# Altium footprint library Connector_Hirose.PcbLib: 136 footprints (part 4 of 9)
Each footprint in its own frame and in the unit in brackets; x right, y up, seen from the top. Pads: shape width x height; smd on the part's side, far side on the other; paste and mask are expansions set on the pad; w line width, h text height; cw(c..) or ccw(c..) is an arc to the next point about the centre after c.
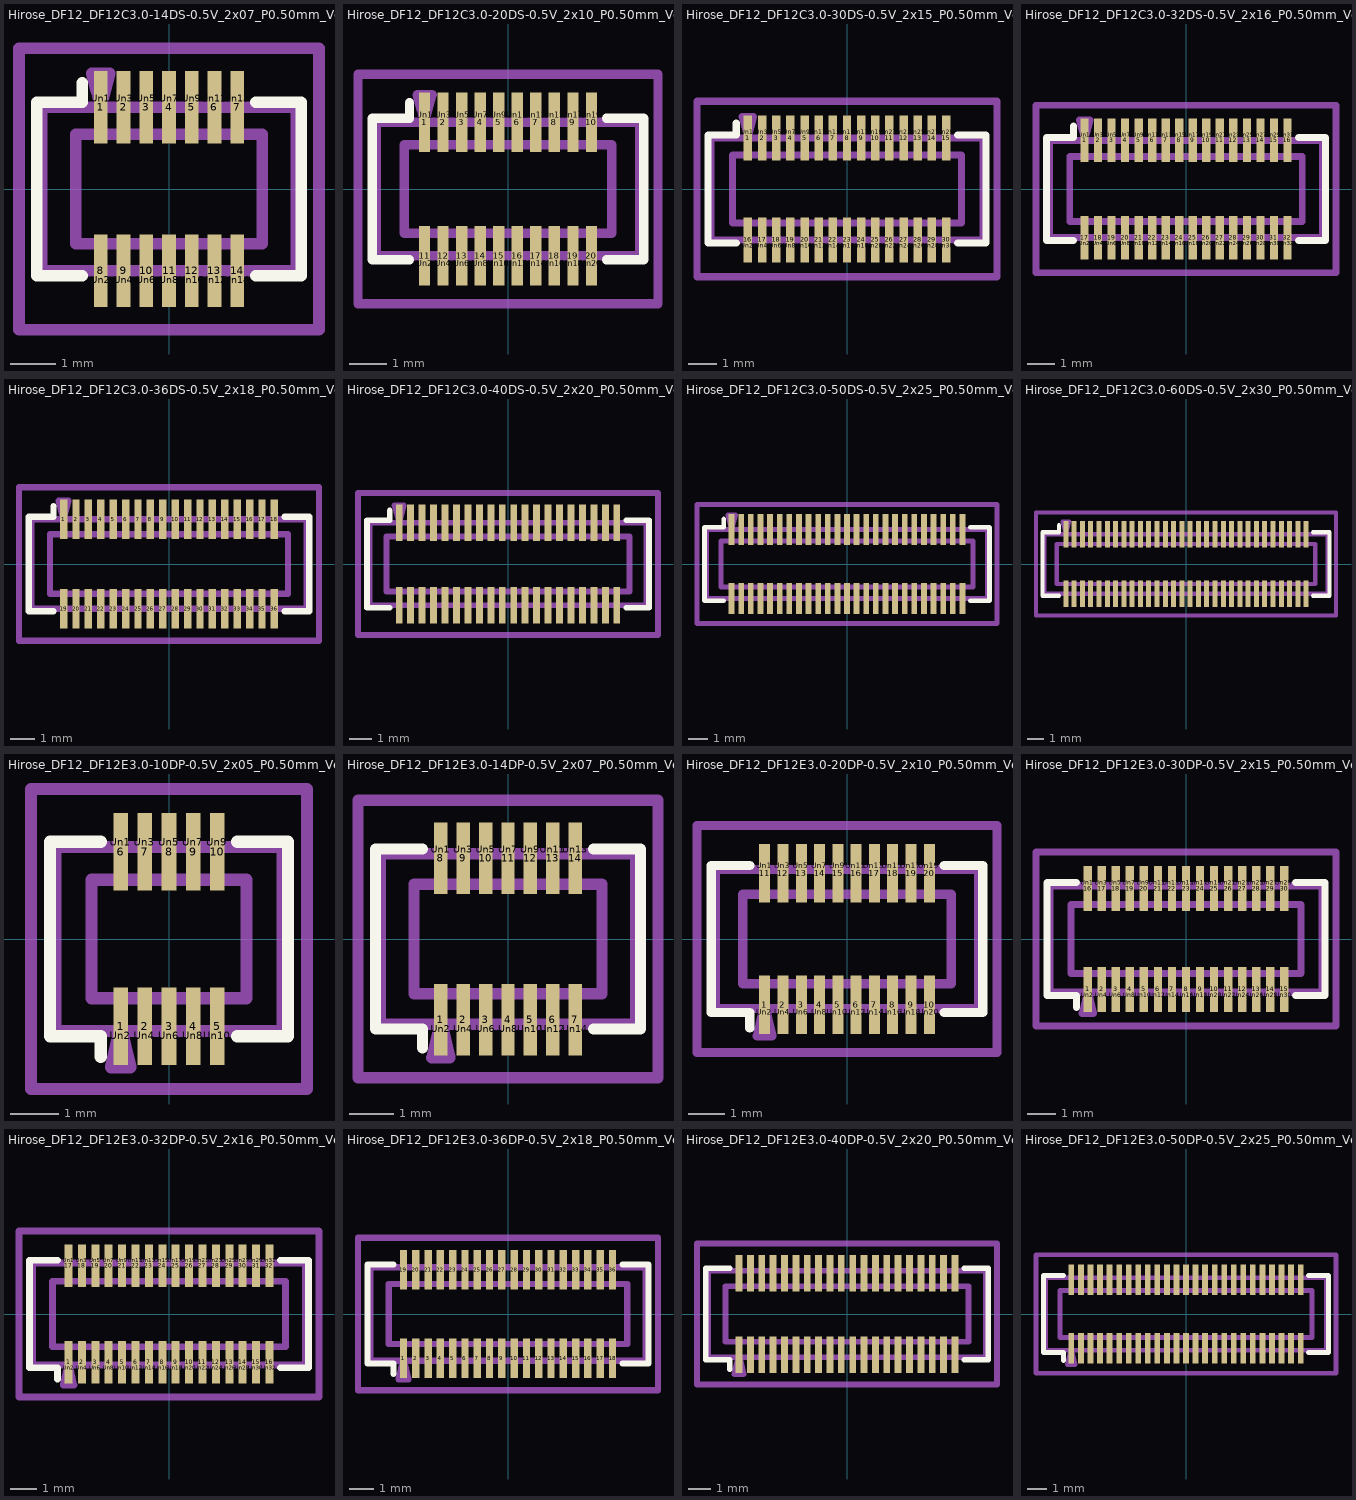
[diagram p3: the footprints below, top view; thin cyan lines are the x and y axes]

## Hirose_DF12_DF12C3.0-14DS-0.5V_2x07_P0.50mm_Vertical [mm]
pads (28):
  rect 0.3x1.6 smd: 1(-1.5,1.8) 2(-1,1.8) 3(-0.5,1.8) 4(0,1.8) 5(0.5,1.8) 6(1,1.8) 7(1.5,1.8) 8(-1.5,-1.8) 9(-1,-1.8) 10(-0.5,-1.8) 11(0,-1.8) 12(0.5,-1.8) 13(1,-1.8) 14(1.5,-1.8)
  rect 0.28x1.2 on Top Paste: Un1(-1.5,2) Un2(-1.5,-2) Un3(-1,2) Un4(-1,-2) Un5(-0.5,2) Un6(-0.5,-2) Un7(0,2) Un8(0,-2) Un9(0.5,2) Un10(0.5,-2) Un11(1,2) Un12(1,-2) Un13(1.5,2) Un14(1.5,-2)
F.SilkS:
  lines w0.254: -1.91,-1.91 -2.91,-1.91 -2.91,1.91 -1.91,1.91 -1.91,2.333 ; 1.91,-1.91 2.91,-1.91 2.91,1.91 1.91,1.91
Top Assembly:
  lines w0.254: -2.8,-1.8 2.8,-1.8 2.8,1.8 -2.8,1.8 -2.8,-1.8 ; -2.05,-1.2 2.05,-1.2 2.05,1.2 -2.05,1.2 -2.05,-1.2 ; -1.7,2.55 -1.3,2.55 -1.5,1.8 -1.7,2.55
  text "'.Designator'" at -4.047,0.26 h1
Top Courtyard:
  lines w0.254: -3.3,-3.1 3.3,-3.1 3.3,3.1 -3.3,3.1 -3.3,-3.1
Top Designator:
  text ".Designator" at -7.768,-0.508 h1.52

## Hirose_DF12_DF12C3.0-20DS-0.5V_2x10_P0.50mm_Vertical [mm]
pads (40):
  rect 0.3x1.6 smd: 1(-2.25,1.8) 2(-1.75,1.8) 3(-1.25,1.8) 4(-0.75,1.8) 5(-0.25,1.8) 6(0.25,1.8) 7(0.75,1.8) 8(1.25,1.8) 9(1.75,1.8) 10(2.25,1.8) 11(-2.25,-1.8) 12(-1.75,-1.8) 13(-1.25,-1.8) 14(-0.75,-1.8) 15(-0.25,-1.8) 16(0.25,-1.8) 17(0.75,-1.8) 18(1.25,-1.8) 19(1.75,-1.8) 20(2.25,-1.8)
  rect 0.28x1.2 on Top Paste: Un1(-2.25,2) Un2(-2.25,-2) Un3(-1.75,2) Un4(-1.75,-2) Un5(-1.25,2) Un6(-1.25,-2) Un7(-0.75,2) Un8(-0.75,-2) Un9(-0.25,2) Un10(-0.25,-2) Un11(0.25,2) Un12(0.25,-2) Un13(0.75,2) Un14(0.75,-2) Un15(1.25,2) Un16(1.25,-2) Un17(1.75,2) Un18(1.75,-2) Un19(2.25,2) Un20(2.25,-2)
F.SilkS:
  lines w0.254: -2.66,-1.91 -3.66,-1.91 -3.66,1.91 -2.66,1.91 -2.66,2.333 ; 2.66,-1.91 3.66,-1.91 3.66,1.91 2.66,1.91
Top Assembly:
  lines w0.254: -3.55,-1.8 3.55,-1.8 3.55,1.8 -3.55,1.8 -3.55,-1.8 ; -2.8,-1.2 2.8,-1.2 2.8,1.2 -2.8,1.2 -2.8,-1.2 ; -2.45,2.55 -2.05,2.55 -2.25,1.8 -2.45,2.55
  text "'.Designator'" at -4.047,0.26 h1
Top Courtyard:
  lines w0.254: -4.05,-3.1 4.05,-3.1 4.05,3.1 -4.05,3.1 -4.05,-3.1
Top Designator:
  text ".Designator" at -7.627,-0.508 h1.52

## Hirose_DF12_DF12C3.0-30DS-0.5V_2x15_P0.50mm_Vertical [mm]
pads (60):
  rect 0.3x1.6 smd: 1(-3.5,1.8) 2(-3,1.8) 3(-2.5,1.8) 4(-2,1.8) 5(-1.5,1.8) 6(-1,1.8) 7(-0.5,1.8) 8(0,1.8) 9(0.5,1.8) 10(1,1.8) 11(1.5,1.8) 12(2,1.8) 13(2.5,1.8) 14(3,1.8) 15(3.5,1.8) 16(-3.5,-1.8) 17(-3,-1.8) 18(-2.5,-1.8) 19(-2,-1.8) 20(-1.5,-1.8) 21(-1,-1.8) 22(-0.5,-1.8) 23(0,-1.8) 24(0.5,-1.8) 25(1,-1.8) 26(1.5,-1.8) 27(2,-1.8) 28(2.5,-1.8) 29(3,-1.8) 30(3.5,-1.8)
  rect 0.28x1.2 on Top Paste: Un1(-3.5,2) Un2(-3.5,-2) Un3(-3,2) Un4(-3,-2) Un5(-2.5,2) Un6(-2.5,-2) Un7(-2,2) Un8(-2,-2) Un9(-1.5,2) Un10(-1.5,-2) Un11(-1,2) Un12(-1,-2) Un13(-0.5,2) Un14(-0.5,-2) Un15(0,2) Un16(0,-2) Un17(0.5,2) Un18(0.5,-2) Un19(1,2) Un20(1,-2) Un21(1.5,2) Un22(1.5,-2) Un23(2,2) Un24(2,-2) Un25(2.5,2) Un26(2.5,-2) Un27(3,2) Un28(3,-2) Un29(3.5,2) Un30(3.5,-2)
F.SilkS:
  lines w0.254: -3.91,-1.91 -4.91,-1.91 -4.91,1.91 -3.91,1.91 -3.91,2.333 ; 3.91,-1.91 4.91,-1.91 4.91,1.91 3.91,1.91
Top Assembly:
  lines w0.254: -4.8,-1.8 4.8,-1.8 4.8,1.8 -4.8,1.8 -4.8,-1.8 ; -4.05,-1.2 4.05,-1.2 4.05,1.2 -4.05,1.2 -4.05,-1.2 ; -3.7,2.55 -3.3,2.55 -3.5,1.8 -3.7,2.55
  text "'.Designator'" at -4.047,0.26 h1
Top Courtyard:
  lines w0.254: -5.3,-3.1 5.3,-3.1 5.3,3.1 -5.3,3.1 -5.3,-3.1
Top Designator:
  text ".Designator" at -7.618,-0.508 h1.52

## Hirose_DF12_DF12C3.0-32DS-0.5V_2x16_P0.50mm_Vertical [mm]
pads (64):
  rect 0.3x1.6 smd: 1(-3.75,1.8) 2(-3.25,1.8) 3(-2.75,1.8) 4(-2.25,1.8) 5(-1.75,1.8) 6(-1.25,1.8) 7(-0.75,1.8) 8(-0.25,1.8) 9(0.25,1.8) 10(0.75,1.8) 11(1.25,1.8) 12(1.75,1.8) 13(2.25,1.8) 14(2.75,1.8) 15(3.25,1.8) 16(3.75,1.8) 17(-3.75,-1.8) 18(-3.25,-1.8) 19(-2.75,-1.8) 20(-2.25,-1.8) 21(-1.75,-1.8) 22(-1.25,-1.8) 23(-0.75,-1.8) 24(-0.25,-1.8) 25(0.25,-1.8) 26(0.75,-1.8) 27(1.25,-1.8) 28(1.75,-1.8) 29(2.25,-1.8) 30(2.75,-1.8) 31(3.25,-1.8) 32(3.75,-1.8)
  rect 0.28x1.2 on Top Paste: Un1(-3.75,2) Un2(-3.75,-2) Un3(-3.25,2) Un4(-3.25,-2) Un5(-2.75,2) Un6(-2.75,-2) Un7(-2.25,2) Un8(-2.25,-2) Un9(-1.75,2) Un10(-1.75,-2) Un11(-1.25,2) Un12(-1.25,-2) Un13(-0.75,2) Un14(-0.75,-2) Un15(-0.25,2) Un16(-0.25,-2) Un17(0.25,2) Un18(0.25,-2) Un19(0.75,2) Un20(0.75,-2) Un21(1.25,2) Un22(1.25,-2) Un23(1.75,2) Un24(1.75,-2) Un25(2.25,2) Un26(2.25,-2) Un27(2.75,2) Un28(2.75,-2) Un29(3.25,2) Un30(3.25,-2) Un31(3.75,2) Un32(3.75,-2)
F.SilkS:
  lines w0.254: -4.16,-1.91 -5.16,-1.91 -5.16,1.91 -4.16,1.91 -4.16,2.333 ; 4.16,-1.91 5.16,-1.91 5.16,1.91 4.16,1.91
Top Assembly:
  lines w0.254: -5.05,-1.8 5.05,-1.8 5.05,1.8 -5.05,1.8 -5.05,-1.8 ; -4.3,-1.2 4.3,-1.2 4.3,1.2 -4.3,1.2 -4.3,-1.2 ; -3.95,2.55 -3.55,2.55 -3.75,1.8 -3.95,2.55
  text "'.Designator'" at -4.047,0.26 h1
Top Courtyard:
  lines w0.254: -5.55,-3.1 5.55,-3.1 5.55,3.1 -5.55,3.1 -5.55,-3.1
Top Designator:
  text ".Designator" at -7.618,-0.508 h1.52

## Hirose_DF12_DF12C3.0-36DS-0.5V_2x18_P0.50mm_Vertical [mm]
pads (72):
  rect 0.3x1.6 smd: 1(-4.25,1.8) 2(-3.75,1.8) 3(-3.25,1.8) 4(-2.75,1.8) 5(-2.25,1.8) 6(-1.75,1.8) 7(-1.25,1.8) 8(-0.75,1.8) 9(-0.25,1.8) 10(0.25,1.8) 11(0.75,1.8) 12(1.25,1.8) 13(1.75,1.8) 14(2.25,1.8) 15(2.75,1.8) 16(3.25,1.8) 17(3.75,1.8) 18(4.25,1.8) 19(-4.25,-1.8) 20(-3.75,-1.8) 21(-3.25,-1.8) 22(-2.75,-1.8) 23(-2.25,-1.8) 24(-1.75,-1.8) 25(-1.25,-1.8) 26(-0.75,-1.8) 27(-0.25,-1.8) 28(0.25,-1.8) 29(0.75,-1.8) 30(1.25,-1.8) 31(1.75,-1.8) 32(2.25,-1.8) 33(2.75,-1.8) 34(3.25,-1.8) 35(3.75,-1.8) 36(4.25,-1.8)
  rect 0.28x1.2 on Top Paste: Un1(-4.25,2) Un2(-4.25,-2) Un3(-3.75,2) Un4(-3.75,-2) Un5(-3.25,2) Un6(-3.25,-2) Un7(-2.75,2) Un8(-2.75,-2) Un9(-2.25,2) Un10(-2.25,-2) Un11(-1.75,2) Un12(-1.75,-2) Un13(-1.25,2) Un14(-1.25,-2) Un15(-0.75,2) Un16(-0.75,-2) Un17(-0.25,2) Un18(-0.25,-2) Un19(0.25,2) Un20(0.25,-2) Un21(0.75,2) Un22(0.75,-2) Un23(1.25,2) Un24(1.25,-2) Un25(1.75,2) Un26(1.75,-2) Un27(2.25,2) Un28(2.25,-2) Un29(2.75,2) Un30(2.75,-2) Un31(3.25,2) Un32(3.25,-2) Un33(3.75,2) Un34(3.75,-2) Un35(4.25,2) Un36(4.25,-2)
F.SilkS:
  lines w0.254: -4.66,-1.91 -5.66,-1.91 -5.66,1.91 -4.66,1.91 -4.66,2.333 ; 4.66,-1.91 5.66,-1.91 5.66,1.91 4.66,1.91
Top Assembly:
  lines w0.254: -5.55,-1.8 5.55,-1.8 5.55,1.8 -5.55,1.8 -5.55,-1.8 ; -4.8,-1.2 4.8,-1.2 4.8,1.2 -4.8,1.2 -4.8,-1.2 ; -4.45,2.55 -4.05,2.55 -4.25,1.8 -4.45,2.55
  text "'.Designator'" at -4.047,0.26 h1
Top Courtyard:
  lines w0.254: -6.05,-3.1 6.05,-3.1 6.05,3.1 -6.05,3.1 -6.05,-3.1
Top Designator:
  text ".Designator" at -7.618,-0.508 h1.52

## Hirose_DF12_DF12C3.0-40DS-0.5V_2x20_P0.50mm_Vertical [mm]
pads (80):
  rect 0.3x1.6 smd: 1(-4.75,1.8) 2(-4.25,1.8) 3(-3.75,1.8) 4(-3.25,1.8) 5(-2.75,1.8) 6(-2.25,1.8) 7(-1.75,1.8) 8(-1.25,1.8) 9(-0.75,1.8) 10(-0.25,1.8) 11(0.25,1.8) 12(0.75,1.8) 13(1.25,1.8) 14(1.75,1.8) 15(2.25,1.8) 16(2.75,1.8) 17(3.25,1.8) 18(3.75,1.8) 19(4.25,1.8) 20(4.75,1.8) 21(-4.75,-1.8) 22(-4.25,-1.8) 23(-3.75,-1.8) 24(-3.25,-1.8) 25(-2.75,-1.8) 26(-2.25,-1.8) 27(-1.75,-1.8) 28(-1.25,-1.8) 29(-0.75,-1.8) 30(-0.25,-1.8) 31(0.25,-1.8) 32(0.75,-1.8) 33(1.25,-1.8) 34(1.75,-1.8) 35(2.25,-1.8) 36(2.75,-1.8) 37(3.25,-1.8) 38(3.75,-1.8) 39(4.25,-1.8) 40(4.75,-1.8)
  rect 0.28x1.2 on Top Paste: Un1(-4.75,2) Un2(-4.75,-2) Un3(-4.25,2) Un4(-4.25,-2) Un5(-3.75,2) Un6(-3.75,-2) Un7(-3.25,2) Un8(-3.25,-2) Un9(-2.75,2) Un10(-2.75,-2) Un11(-2.25,2) Un12(-2.25,-2) Un13(-1.75,2) Un14(-1.75,-2) Un15(-1.25,2) Un16(-1.25,-2) Un17(-0.75,2) Un18(-0.75,-2) Un19(-0.25,2) Un20(-0.25,-2) Un21(0.25,2) Un22(0.25,-2) Un23(0.75,2) Un24(0.75,-2) Un25(1.25,2) Un26(1.25,-2) Un27(1.75,2) Un28(1.75,-2) Un29(2.25,2) Un30(2.25,-2) Un31(2.75,2) Un32(2.75,-2) Un33(3.25,2) Un34(3.25,-2) Un35(3.75,2) Un36(3.75,-2) Un37(4.25,2) Un38(4.25,-2) Un39(4.75,2) Un40(4.75,-2)
F.SilkS:
  lines w0.254: -5.16,-1.91 -6.16,-1.91 -6.16,1.91 -5.16,1.91 -5.16,2.333 ; 5.16,-1.91 6.16,-1.91 6.16,1.91 5.16,1.91
Top Assembly:
  lines w0.254: -6.05,-1.8 6.05,-1.8 6.05,1.8 -6.05,1.8 -6.05,-1.8 ; -5.3,-1.2 5.3,-1.2 5.3,1.2 -5.3,1.2 -5.3,-1.2 ; -4.95,2.55 -4.55,2.55 -4.75,1.8 -4.95,2.55
  text "'.Designator'" at -4.047,0.26 h1
Top Courtyard:
  lines w0.254: -6.55,-3.1 6.55,-3.1 6.55,3.1 -6.55,3.1 -6.55,-3.1
Top Designator:
  text ".Designator" at -7.618,-0.508 h1.52

## Hirose_DF12_DF12C3.0-50DS-0.5V_2x25_P0.50mm_Vertical [mm]
pads (100):
  rect 0.3x1.6 smd: 1(-6,1.8) 2(-5.5,1.8) 3(-5,1.8) 4(-4.5,1.8) 5(-4,1.8) 6(-3.5,1.8) 7(-3,1.8) 8(-2.5,1.8) 9(-2,1.8) 10(-1.5,1.8) 11(-1,1.8) 12(-0.5,1.8) 13(0,1.8) 14(0.5,1.8) 15(1,1.8) 16(1.5,1.8) 17(2,1.8) 18(2.5,1.8) 19(3,1.8) 20(3.5,1.8) 21(4,1.8) 22(4.5,1.8) 23(5,1.8) 24(5.5,1.8) 25(6,1.8) 26(-6,-1.8) 27(-5.5,-1.8) 28(-5,-1.8) 29(-4.5,-1.8) 30(-4,-1.8) 31(-3.5,-1.8) 32(-3,-1.8) 33(-2.5,-1.8) 34(-2,-1.8) 35(-1.5,-1.8) 36(-1,-1.8) 37(-0.5,-1.8) 38(0,-1.8) 39(0.5,-1.8) 40(1,-1.8) 41(1.5,-1.8) 42(2,-1.8) 43(2.5,-1.8) 44(3,-1.8) 45(3.5,-1.8) 46(4,-1.8) 47(4.5,-1.8) 48(5,-1.8) 49(5.5,-1.8) 50(6,-1.8)
  rect 0.28x1.2 on Top Paste: Un1(-6,2) Un2(-6,-2) Un3(-5.5,2) Un4(-5.5,-2) Un5(-5,2) Un6(-5,-2) Un7(-4.5,2) Un8(-4.5,-2) Un9(-4,2) Un10(-4,-2) Un11(-3.5,2) Un12(-3.5,-2) Un13(-3,2) Un14(-3,-2) Un15(-2.5,2) Un16(-2.5,-2) Un17(-2,2) Un18(-2,-2) Un19(-1.5,2) Un20(-1.5,-2) Un21(-1,2) Un22(-1,-2) Un23(-0.5,2) Un24(-0.5,-2) Un25(0,2) Un26(0,-2) Un27(0.5,2) Un28(0.5,-2) Un29(1,2) Un30(1,-2) Un31(1.5,2) Un32(1.5,-2) Un33(2,2) Un34(2,-2) Un35(2.5,2) Un36(2.5,-2) Un37(3,2) Un38(3,-2) Un39(3.5,2) Un40(3.5,-2) Un41(4,2) Un42(4,-2) Un43(4.5,2) Un44(4.5,-2) Un45(5,2) Un46(5,-2) Un47(5.5,2) Un48(5.5,-2) Un49(6,2) Un50(6,-2)
F.SilkS:
  lines w0.254: -6.41,-1.91 -7.41,-1.91 -7.41,1.91 -6.41,1.91 -6.41,2.333 ; 6.41,-1.91 7.41,-1.91 7.41,1.91 6.41,1.91
Top Assembly:
  lines w0.254: -7.3,-1.8 7.3,-1.8 7.3,1.8 -7.3,1.8 -7.3,-1.8 ; -6.55,-1.2 6.55,-1.2 6.55,1.2 -6.55,1.2 -6.55,-1.2 ; -6.2,2.55 -5.8,2.55 -6,1.8 -6.2,2.55
  text "'.Designator'" at -4.047,0.26 h1
Top Courtyard:
  lines w0.254: -7.8,-3.1 7.8,-3.1 7.8,3.1 -7.8,3.1 -7.8,-3.1
Top Designator:
  text ".Designator" at -7.618,-0.508 h1.52

## Hirose_DF12_DF12C3.0-60DS-0.5V_2x30_P0.50mm_Vertical [mm]
pads (120):
  rect 0.3x1.6 smd: 1(-7.25,1.8) 2(-6.75,1.8) 3(-6.25,1.8) 4(-5.75,1.8) 5(-5.25,1.8) 6(-4.75,1.8) 7(-4.25,1.8) 8(-3.75,1.8) 9(-3.25,1.8) 10(-2.75,1.8) 11(-2.25,1.8) 12(-1.75,1.8) 13(-1.25,1.8) 14(-0.75,1.8) 15(-0.25,1.8) 16(0.25,1.8) 17(0.75,1.8) 18(1.25,1.8) 19(1.75,1.8) 20(2.25,1.8) 21(2.75,1.8) 22(3.25,1.8) 23(3.75,1.8) 24(4.25,1.8) 25(4.75,1.8) 26(5.25,1.8) 27(5.75,1.8) 28(6.25,1.8) 29(6.75,1.8) 30(7.25,1.8) 31(-7.25,-1.8) 32(-6.75,-1.8) 33(-6.25,-1.8) 34(-5.75,-1.8) 35(-5.25,-1.8) 36(-4.75,-1.8) 37(-4.25,-1.8) 38(-3.75,-1.8) 39(-3.25,-1.8) 40(-2.75,-1.8) 41(-2.25,-1.8) 42(-1.75,-1.8) 43(-1.25,-1.8) 44(-0.75,-1.8) 45(-0.25,-1.8) 46(0.25,-1.8) 47(0.75,-1.8) 48(1.25,-1.8) 49(1.75,-1.8) 50(2.25,-1.8) 51(2.75,-1.8) 52(3.25,-1.8) 53(3.75,-1.8) 54(4.25,-1.8) 55(4.75,-1.8) 56(5.25,-1.8) 57(5.75,-1.8) 58(6.25,-1.8) 59(6.75,-1.8) 60(7.25,-1.8)
  rect 0.28x1.2 on Top Paste: Un1(-7.25,2) Un2(-7.25,-2) Un3(-6.75,2) Un4(-6.75,-2) Un5(-6.25,2) Un6(-6.25,-2) Un7(-5.75,2) Un8(-5.75,-2) Un9(-5.25,2) Un10(-5.25,-2) Un11(-4.75,2) Un12(-4.75,-2) Un13(-4.25,2) Un14(-4.25,-2) Un15(-3.75,2) Un16(-3.75,-2) Un17(-3.25,2) Un18(-3.25,-2) Un19(-2.75,2) Un20(-2.75,-2) Un21(-2.25,2) Un22(-2.25,-2) Un23(-1.75,2) Un24(-1.75,-2) Un25(-1.25,2) Un26(-1.25,-2) Un27(-0.75,2) Un28(-0.75,-2) Un29(-0.25,2) Un30(-0.25,-2) Un31(0.25,2) Un32(0.25,-2) Un33(0.75,2) Un34(0.75,-2) Un35(1.25,2) Un36(1.25,-2) Un37(1.75,2) Un38(1.75,-2) Un39(2.25,2) Un40(2.25,-2) Un41(2.75,2) Un42(2.75,-2) Un43(3.25,2) Un44(3.25,-2) Un45(3.75,2) Un46(3.75,-2) Un47(4.25,2) Un48(4.25,-2) Un49(4.75,2) Un50(4.75,-2) Un51(5.25,2) Un52(5.25,-2) Un53(5.75,2) Un54(5.75,-2) Un55(6.25,2) Un56(6.25,-2) Un57(6.75,2) Un58(6.75,-2) Un59(7.25,2) Un60(7.25,-2)
F.SilkS:
  lines w0.254: -7.66,-1.91 -8.66,-1.91 -8.66,1.91 -7.66,1.91 -7.66,2.333 ; 7.66,-1.91 8.66,-1.91 8.66,1.91 7.66,1.91
Top Assembly:
  lines w0.254: -8.55,-1.8 8.55,-1.8 8.55,1.8 -8.55,1.8 -8.55,-1.8 ; -7.8,-1.2 7.8,-1.2 7.8,1.2 -7.8,1.2 -7.8,-1.2 ; -7.45,2.55 -7.05,2.55 -7.25,1.8 -7.45,2.55
  text "'.Designator'" at -4.047,0.26 h1
Top Courtyard:
  lines w0.254: -9.05,-3.1 9.05,-3.1 9.05,3.1 -9.05,3.1 -9.05,-3.1
Top Designator:
  text ".Designator" at -7.618,-0.508 h1.52

## Hirose_DF12_DF12E3.0-10DP-0.5V_2x05_P0.50mm_Vertical [mm]
pads (20):
  rect 0.3x1.6 smd: 1(-1,-1.8) 2(-0.5,-1.8) 3(0,-1.8) 4(0.5,-1.8) 5(1,-1.8) 6(-1,1.8) 7(-0.5,1.8) 8(0,1.8) 9(0.5,1.8) 10(1,1.8)
  rect 0.28x1.2 on Top Paste: Un1(-1,2) Un2(-1,-2) Un3(-0.5,2) Un4(-0.5,-2) Un5(0,2) Un6(0,-2) Un7(0.5,2) Un8(0.5,-2) Un9(1,2) Un10(1,-2)
F.SilkS:
  lines w0.254: -1.41,-2.433 -1.41,-2.01 -2.46,-2.01 -2.46,2.01 -1.41,2.01 ; 1.41,-2.01 2.46,-2.01 2.46,2.01 1.41,2.01
Top Assembly:
  lines w0.254: -2.35,-1.9 2.35,-1.9 2.35,1.9 -2.35,1.9 -2.35,-1.9 ; -1.6,-1.225 1.6,-1.225 1.6,1.225 -1.6,1.225 -1.6,-1.225 ; -1.2,-2.65 -0.8,-2.65 -1,-1.8 -1.2,-2.65
  text "'.Designator'" at -4.047,0.36 h1
Top Courtyard:
  lines w0.254: -2.85,-3.1 2.85,-3.1 2.85,3.1 -2.85,3.1 -2.85,-3.1
Top Designator:
  text ".Designator" at -7.768,-0.508 h1.52

## Hirose_DF12_DF12E3.0-14DP-0.5V_2x07_P0.50mm_Vertical [mm]
pads (28):
  rect 0.3x1.6 smd: 1(-1.5,-1.8) 2(-1,-1.8) 3(-0.5,-1.8) 4(0,-1.8) 5(0.5,-1.8) 6(1,-1.8) 7(1.5,-1.8) 8(-1.5,1.8) 9(-1,1.8) 10(-0.5,1.8) 11(0,1.8) 12(0.5,1.8) 13(1,1.8) 14(1.5,1.8)
  rect 0.28x1.2 on Top Paste: Un1(-1.5,2) Un2(-1.5,-2) Un3(-1,2) Un4(-1,-2) Un5(-0.5,2) Un6(-0.5,-2) Un7(0,2) Un8(0,-2) Un9(0.5,2) Un10(0.5,-2) Un11(1,2) Un12(1,-2) Un13(1.5,2) Un14(1.5,-2)
F.SilkS:
  lines w0.254: -1.91,-2.433 -1.91,-2.01 -2.96,-2.01 -2.96,2.01 -1.91,2.01 ; 1.91,-2.01 2.96,-2.01 2.96,2.01 1.91,2.01
Top Assembly:
  lines w0.254: -2.85,-1.9 2.85,-1.9 2.85,1.9 -2.85,1.9 -2.85,-1.9 ; -2.1,-1.225 2.1,-1.225 2.1,1.225 -2.1,1.225 -2.1,-1.225 ; -1.7,-2.65 -1.3,-2.65 -1.5,-1.8 -1.7,-2.65
  text "'.Designator'" at -4.047,0.36 h1
Top Courtyard:
  lines w0.254: -3.35,-3.1 3.35,-3.1 3.35,3.1 -3.35,3.1 -3.35,-3.1
Top Designator:
  text ".Designator" at -7.768,-0.508 h1.52

## Hirose_DF12_DF12E3.0-20DP-0.5V_2x10_P0.50mm_Vertical [mm]
pads (40):
  rect 0.3x1.6 smd: 1(-2.25,-1.8) 2(-1.75,-1.8) 3(-1.25,-1.8) 4(-0.75,-1.8) 5(-0.25,-1.8) 6(0.25,-1.8) 7(0.75,-1.8) 8(1.25,-1.8) 9(1.75,-1.8) 10(2.25,-1.8) 11(-2.25,1.8) 12(-1.75,1.8) 13(-1.25,1.8) 14(-0.75,1.8) 15(-0.25,1.8) 16(0.25,1.8) 17(0.75,1.8) 18(1.25,1.8) 19(1.75,1.8) 20(2.25,1.8)
  rect 0.28x1.2 on Top Paste: Un1(-2.25,2) Un2(-2.25,-2) Un3(-1.75,2) Un4(-1.75,-2) Un5(-1.25,2) Un6(-1.25,-2) Un7(-0.75,2) Un8(-0.75,-2) Un9(-0.25,2) Un10(-0.25,-2) Un11(0.25,2) Un12(0.25,-2) Un13(0.75,2) Un14(0.75,-2) Un15(1.25,2) Un16(1.25,-2) Un17(1.75,2) Un18(1.75,-2) Un19(2.25,2) Un20(2.25,-2)
F.SilkS:
  lines w0.254: -2.66,-2.433 -2.66,-2.01 -3.71,-2.01 -3.71,2.01 -2.66,2.01 ; 2.66,-2.01 3.71,-2.01 3.71,2.01 2.66,2.01
Top Assembly:
  lines w0.254: -3.6,-1.9 3.6,-1.9 3.6,1.9 -3.6,1.9 -3.6,-1.9 ; -2.85,-1.225 2.85,-1.225 2.85,1.225 -2.85,1.225 -2.85,-1.225 ; -2.45,-2.65 -2.05,-2.65 -2.25,-1.8 -2.45,-2.65
  text "'.Designator'" at -4.047,0.36 h1
Top Courtyard:
  lines w0.254: -4.1,-3.1 4.1,-3.1 4.1,3.1 -4.1,3.1 -4.1,-3.1
Top Designator:
  text ".Designator" at -7.618,-0.508 h1.52

## Hirose_DF12_DF12E3.0-30DP-0.5V_2x15_P0.50mm_Vertical [mm]
pads (60):
  rect 0.3x1.6 smd: 1(-3.5,-1.8) 2(-3,-1.8) 3(-2.5,-1.8) 4(-2,-1.8) 5(-1.5,-1.8) 6(-1,-1.8) 7(-0.5,-1.8) 8(0,-1.8) 9(0.5,-1.8) 10(1,-1.8) 11(1.5,-1.8) 12(2,-1.8) 13(2.5,-1.8) 14(3,-1.8) 15(3.5,-1.8) 16(-3.5,1.8) 17(-3,1.8) 18(-2.5,1.8) 19(-2,1.8) 20(-1.5,1.8) 21(-1,1.8) 22(-0.5,1.8) 23(0,1.8) 24(0.5,1.8) 25(1,1.8) 26(1.5,1.8) 27(2,1.8) 28(2.5,1.8) 29(3,1.8) 30(3.5,1.8)
  rect 0.28x1.2 on Top Paste: Un1(-3.5,2) Un2(-3.5,-2) Un3(-3,2) Un4(-3,-2) Un5(-2.5,2) Un6(-2.5,-2) Un7(-2,2) Un8(-2,-2) Un9(-1.5,2) Un10(-1.5,-2) Un11(-1,2) Un12(-1,-2) Un13(-0.5,2) Un14(-0.5,-2) Un15(0,2) Un16(0,-2) Un17(0.5,2) Un18(0.5,-2) Un19(1,2) Un20(1,-2) Un21(1.5,2) Un22(1.5,-2) Un23(2,2) Un24(2,-2) Un25(2.5,2) Un26(2.5,-2) Un27(3,2) Un28(3,-2) Un29(3.5,2) Un30(3.5,-2)
F.SilkS:
  lines w0.254: -3.91,-2.433 -3.91,-2.01 -4.96,-2.01 -4.96,2.01 -3.91,2.01 ; 3.91,-2.01 4.96,-2.01 4.96,2.01 3.91,2.01
Top Assembly:
  lines w0.254: -4.85,-1.9 4.85,-1.9 4.85,1.9 -4.85,1.9 -4.85,-1.9 ; -4.1,-1.225 4.1,-1.225 4.1,1.225 -4.1,1.225 -4.1,-1.225 ; -3.7,-2.65 -3.3,-2.65 -3.5,-1.8 -3.7,-2.65
  text "'.Designator'" at -4.047,0.36 h1
Top Courtyard:
  lines w0.254: -5.35,-3.1 5.35,-3.1 5.35,3.1 -5.35,3.1 -5.35,-3.1
Top Designator:
  text ".Designator" at -7.618,-0.508 h1.52

## Hirose_DF12_DF12E3.0-32DP-0.5V_2x16_P0.50mm_Vertical [mm]
pads (64):
  rect 0.3x1.6 smd: 1(-3.75,-1.8) 2(-3.25,-1.8) 3(-2.75,-1.8) 4(-2.25,-1.8) 5(-1.75,-1.8) 6(-1.25,-1.8) 7(-0.75,-1.8) 8(-0.25,-1.8) 9(0.25,-1.8) 10(0.75,-1.8) 11(1.25,-1.8) 12(1.75,-1.8) 13(2.25,-1.8) 14(2.75,-1.8) 15(3.25,-1.8) 16(3.75,-1.8) 17(-3.75,1.8) 18(-3.25,1.8) 19(-2.75,1.8) 20(-2.25,1.8) 21(-1.75,1.8) 22(-1.25,1.8) 23(-0.75,1.8) 24(-0.25,1.8) 25(0.25,1.8) 26(0.75,1.8) 27(1.25,1.8) 28(1.75,1.8) 29(2.25,1.8) 30(2.75,1.8) 31(3.25,1.8) 32(3.75,1.8)
  rect 0.28x1.2 on Top Paste: Un1(-3.75,2) Un2(-3.75,-2) Un3(-3.25,2) Un4(-3.25,-2) Un5(-2.75,2) Un6(-2.75,-2) Un7(-2.25,2) Un8(-2.25,-2) Un9(-1.75,2) Un10(-1.75,-2) Un11(-1.25,2) Un12(-1.25,-2) Un13(-0.75,2) Un14(-0.75,-2) Un15(-0.25,2) Un16(-0.25,-2) Un17(0.25,2) Un18(0.25,-2) Un19(0.75,2) Un20(0.75,-2) Un21(1.25,2) Un22(1.25,-2) Un23(1.75,2) Un24(1.75,-2) Un25(2.25,2) Un26(2.25,-2) Un27(2.75,2) Un28(2.75,-2) Un29(3.25,2) Un30(3.25,-2) Un31(3.75,2) Un32(3.75,-2)
F.SilkS:
  lines w0.254: -4.16,-2.433 -4.16,-2.01 -5.21,-2.01 -5.21,2.01 -4.16,2.01 ; 4.16,-2.01 5.21,-2.01 5.21,2.01 4.16,2.01
Top Assembly:
  lines w0.254: -5.1,-1.9 5.1,-1.9 5.1,1.9 -5.1,1.9 -5.1,-1.9 ; -4.35,-1.225 4.35,-1.225 4.35,1.225 -4.35,1.225 -4.35,-1.225 ; -3.95,-2.65 -3.55,-2.65 -3.75,-1.8 -3.95,-2.65
  text "'.Designator'" at -4.047,0.36 h1
Top Courtyard:
  lines w0.254: -5.6,-3.1 5.6,-3.1 5.6,3.1 -5.6,3.1 -5.6,-3.1
Top Designator:
  text ".Designator" at -7.618,-0.508 h1.52

## Hirose_DF12_DF12E3.0-36DP-0.5V_2x18_P0.50mm_Vertical [mm]
pads (72):
  rect 0.3x1.6 smd: 1(-4.25,-1.8) 2(-3.75,-1.8) 3(-3.25,-1.8) 4(-2.75,-1.8) 5(-2.25,-1.8) 6(-1.75,-1.8) 7(-1.25,-1.8) 8(-0.75,-1.8) 9(-0.25,-1.8) 10(0.25,-1.8) 11(0.75,-1.8) 12(1.25,-1.8) 13(1.75,-1.8) 14(2.25,-1.8) 15(2.75,-1.8) 16(3.25,-1.8) 17(3.75,-1.8) 18(4.25,-1.8) 19(-4.25,1.8) 20(-3.75,1.8) 21(-3.25,1.8) 22(-2.75,1.8) 23(-2.25,1.8) 24(-1.75,1.8) 25(-1.25,1.8) 26(-0.75,1.8) 27(-0.25,1.8) 28(0.25,1.8) 29(0.75,1.8) 30(1.25,1.8) 31(1.75,1.8) 32(2.25,1.8) 33(2.75,1.8) 34(3.25,1.8) 35(3.75,1.8) 36(4.25,1.8)
  rect 0.28x1.2 on Top Paste: Un1(-4.25,2) Un2(-4.25,-2) Un3(-3.75,2) Un4(-3.75,-2) Un5(-3.25,2) Un6(-3.25,-2) Un7(-2.75,2) Un8(-2.75,-2) Un9(-2.25,2) Un10(-2.25,-2) Un11(-1.75,2) Un12(-1.75,-2) Un13(-1.25,2) Un14(-1.25,-2) Un15(-0.75,2) Un16(-0.75,-2) Un17(-0.25,2) Un18(-0.25,-2) Un19(0.25,2) Un20(0.25,-2) Un21(0.75,2) Un22(0.75,-2) Un23(1.25,2) Un24(1.25,-2) Un25(1.75,2) Un26(1.75,-2) Un27(2.25,2) Un28(2.25,-2) Un29(2.75,2) Un30(2.75,-2) Un31(3.25,2) Un32(3.25,-2) Un33(3.75,2) Un34(3.75,-2) Un35(4.25,2) Un36(4.25,-2)
F.SilkS:
  lines w0.254: -4.66,-2.433 -4.66,-2.01 -5.71,-2.01 -5.71,2.01 -4.66,2.01 ; 4.66,-2.01 5.71,-2.01 5.71,2.01 4.66,2.01
Top Assembly:
  lines w0.254: -5.6,-1.9 5.6,-1.9 5.6,1.9 -5.6,1.9 -5.6,-1.9 ; -4.85,-1.225 4.85,-1.225 4.85,1.225 -4.85,1.225 -4.85,-1.225 ; -4.45,-2.65 -4.05,-2.65 -4.25,-1.8 -4.45,-2.65
  text "'.Designator'" at -4.047,0.36 h1
Top Courtyard:
  lines w0.254: -6.1,-3.1 6.1,-3.1 6.1,3.1 -6.1,3.1 -6.1,-3.1
Top Designator:
  text ".Designator" at -7.618,-0.508 h1.52

## Hirose_DF12_DF12E3.0-40DP-0.5V_2x20_P0.50mm_Vertical [mm]
pads (80):
  rect 0.3x1.6 smd: 1(-4.75,-1.8) 2(-4.25,-1.8) 3(-3.75,-1.8) 4(-3.25,-1.8) 5(-2.75,-1.8) 6(-2.25,-1.8) 7(-1.75,-1.8) 8(-1.25,-1.8) 9(-0.75,-1.8) 10(-0.25,-1.8) 11(0.25,-1.8) 12(0.75,-1.8) 13(1.25,-1.8) 14(1.75,-1.8) 15(2.25,-1.8) 16(2.75,-1.8) 17(3.25,-1.8) 18(3.75,-1.8) 19(4.25,-1.8) 20(4.75,-1.8) 21(-4.75,1.8) 22(-4.25,1.8) 23(-3.75,1.8) 24(-3.25,1.8) 25(-2.75,1.8) 26(-2.25,1.8) 27(-1.75,1.8) 28(-1.25,1.8) 29(-0.75,1.8) 30(-0.25,1.8) 31(0.25,1.8) 32(0.75,1.8) 33(1.25,1.8) 34(1.75,1.8) 35(2.25,1.8) 36(2.75,1.8) 37(3.25,1.8) 38(3.75,1.8) 39(4.25,1.8) 40(4.75,1.8)
  rect 0.28x1.2 on Top Paste: Un1(-4.75,2) Un2(-4.75,-2) Un3(-4.25,2) Un4(-4.25,-2) Un5(-3.75,2) Un6(-3.75,-2) Un7(-3.25,2) Un8(-3.25,-2) Un9(-2.75,2) Un10(-2.75,-2) Un11(-2.25,2) Un12(-2.25,-2) Un13(-1.75,2) Un14(-1.75,-2) Un15(-1.25,2) Un16(-1.25,-2) Un17(-0.75,2) Un18(-0.75,-2) Un19(-0.25,2) Un20(-0.25,-2) Un21(0.25,2) Un22(0.25,-2) Un23(0.75,2) Un24(0.75,-2) Un25(1.25,2) Un26(1.25,-2) Un27(1.75,2) Un28(1.75,-2) Un29(2.25,2) Un30(2.25,-2) Un31(2.75,2) Un32(2.75,-2) Un33(3.25,2) Un34(3.25,-2) Un35(3.75,2) Un36(3.75,-2) Un37(4.25,2) Un38(4.25,-2) Un39(4.75,2) Un40(4.75,-2)
F.SilkS:
  lines w0.254: -5.16,-2.433 -5.16,-2.01 -6.21,-2.01 -6.21,2.01 -5.16,2.01 ; 5.16,-2.01 6.21,-2.01 6.21,2.01 5.16,2.01
Top Assembly:
  lines w0.254: -6.1,-1.9 6.1,-1.9 6.1,1.9 -6.1,1.9 -6.1,-1.9 ; -5.35,-1.225 5.35,-1.225 5.35,1.225 -5.35,1.225 -5.35,-1.225 ; -4.95,-2.65 -4.55,-2.65 -4.75,-1.8 -4.95,-2.65
  text "'.Designator'" at -4.047,0.36 h1
Top Courtyard:
  lines w0.254: -6.6,-3.1 6.6,-3.1 6.6,3.1 -6.6,3.1 -6.6,-3.1
Top Designator:
  text ".Designator" at -7.618,-0.508 h1.52

## Hirose_DF12_DF12E3.0-50DP-0.5V_2x25_P0.50mm_Vertical [mm]
pads (100):
  rect 0.3x1.6 smd: 1(-6,-1.8) 2(-5.5,-1.8) 3(-5,-1.8) 4(-4.5,-1.8) 5(-4,-1.8) 6(-3.5,-1.8) 7(-3,-1.8) 8(-2.5,-1.8) 9(-2,-1.8) 10(-1.5,-1.8) 11(-1,-1.8) 12(-0.5,-1.8) 13(0,-1.8) 14(0.5,-1.8) 15(1,-1.8) 16(1.5,-1.8) 17(2,-1.8) 18(2.5,-1.8) 19(3,-1.8) 20(3.5,-1.8) 21(4,-1.8) 22(4.5,-1.8) 23(5,-1.8) 24(5.5,-1.8) 25(6,-1.8) 26(-6,1.8) 27(-5.5,1.8) 28(-5,1.8) 29(-4.5,1.8) 30(-4,1.8) 31(-3.5,1.8) 32(-3,1.8) 33(-2.5,1.8) 34(-2,1.8) 35(-1.5,1.8) 36(-1,1.8) 37(-0.5,1.8) 38(0,1.8) 39(0.5,1.8) 40(1,1.8) 41(1.5,1.8) 42(2,1.8) 43(2.5,1.8) 44(3,1.8) 45(3.5,1.8) 46(4,1.8) 47(4.5,1.8) 48(5,1.8) 49(5.5,1.8) 50(6,1.8)
  rect 0.28x1.2 on Top Paste: Un1(-6,2) Un2(-6,-2) Un3(-5.5,2) Un4(-5.5,-2) Un5(-5,2) Un6(-5,-2) Un7(-4.5,2) Un8(-4.5,-2) Un9(-4,2) Un10(-4,-2) Un11(-3.5,2) Un12(-3.5,-2) Un13(-3,2) Un14(-3,-2) Un15(-2.5,2) Un16(-2.5,-2) Un17(-2,2) Un18(-2,-2) Un19(-1.5,2) Un20(-1.5,-2) Un21(-1,2) Un22(-1,-2) Un23(-0.5,2) Un24(-0.5,-2) Un25(0,2) Un26(0,-2) Un27(0.5,2) Un28(0.5,-2) Un29(1,2) Un30(1,-2) Un31(1.5,2) Un32(1.5,-2) Un33(2,2) Un34(2,-2) Un35(2.5,2) Un36(2.5,-2) Un37(3,2) Un38(3,-2) Un39(3.5,2) Un40(3.5,-2) Un41(4,2) Un42(4,-2) Un43(4.5,2) Un44(4.5,-2) Un45(5,2) Un46(5,-2) Un47(5.5,2) Un48(5.5,-2) Un49(6,2) Un50(6,-2)
F.SilkS:
  lines w0.254: -6.41,-2.433 -6.41,-2.01 -7.46,-2.01 -7.46,2.01 -6.41,2.01 ; 6.41,-2.01 7.46,-2.01 7.46,2.01 6.41,2.01
Top Assembly:
  lines w0.254: -7.35,-1.9 7.35,-1.9 7.35,1.9 -7.35,1.9 -7.35,-1.9 ; -6.6,-1.225 6.6,-1.225 6.6,1.225 -6.6,1.225 -6.6,-1.225 ; -6.2,-2.65 -5.8,-2.65 -6,-1.8 -6.2,-2.65
  text "'.Designator'" at -4.047,0.36 h1
Top Courtyard:
  lines w0.254: -7.85,-3.1 7.85,-3.1 7.85,3.1 -7.85,3.1 -7.85,-3.1
Top Designator:
  text ".Designator" at -7.618,-0.508 h1.52